# Altium schematic symbol library SHUNT RESISTOR.SchLib: 1 symbol
Pins are listed as number, name and electrical type; pins without a type are passive.

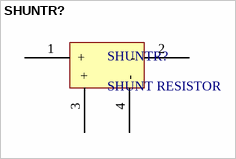
[diagram p0: symbol SHUNTR?]

## SHUNTR?
designator SHUNTR?, comment SHUNT RESISTOR
footprint SHUNT15.24 (SHUNT RESISTER 15.24)
pins: 1 +, 2 -, 3 +, 4 -